# EAGLE library part 691331510010 (library Wurth_Connectors_WR-TBL Pluggable Connector)
WR-TBL Serie 3315 - 5.08 mm Double Level Horizontal Male PCB Header w. Flanges KIND PROPERTIES Pitch 5.08 mm MATERIAL PROPERTIES Insulator Material PA66 Insulator Flammability Rating UL94 V-0 Insulator Color Green Contact Material Brass Contact Plating Tin GENERAL INFORMATION Operating Temperature -40 up to +105 °C ELECTRICAL PROPERTIES IR UL 20 A Working Voltage [UL] 300 V (AC) Withstanding Voltage [cULus] 1600 V (AC) Contact Resistance [cULus] 20 mΩ CERTIFICATION cULus Approval E315414 <https://www.we-online.com/catalog/media/o33284v209%20Family_WR-TBL_6913315100xx.jpg> Details see: https://www.we-online.com/catalog/en/TBL_5_08_3315_DOUBLE_LEVEL_HORIZONTAL_MALE_PCB_HEADER_W_FLANGES_6913315100XX/ Updated by Ella Wu 2019-12-26 2022(C) Wurth Elektronik
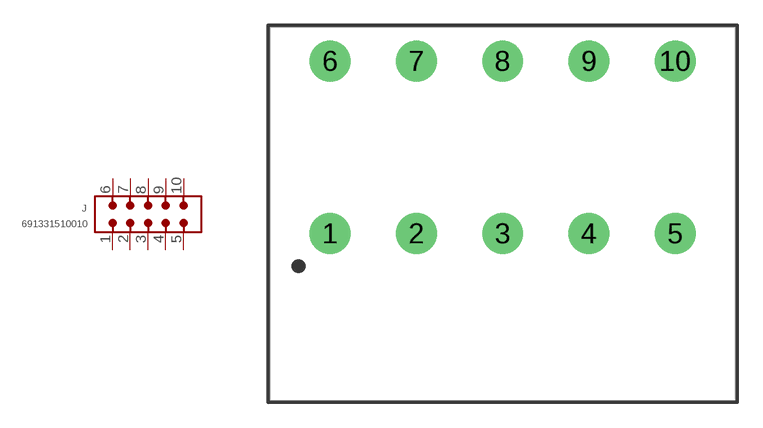
[diagram p339: symbol with the pads of 691331510010; footprint 691331510010]

Designator prefix J

## 691331510010 (DATASHEET-URL: https://www.we-online.com/redexpert/spec/691331510010?ae; IR-UL: 20A; MOUNT: THT; PART-NUMBER: 691331510010; PINS: 10; PITCH: 5.08mm; TYPE: Double Level Horizontal; VALUE: 691331510010; WORKING-VOLTAGE-UL: 300V (AC))  [691331510010]
1  1  pas
2  2  pas
3  3  pas
4  4  pas
5  5  pas
6  6  pas
7  7  pas
8  8  pas
9  9  pas
10  10  pas

## Footprint 691331510010 (pad centres in mm)
WR-TBL Serie 3315 - 5.08 mm Double Level Horizontal Male PCB Header w. Flanges Max Height = 28.8mm , Pitch 5.08mm , 10pins
drill 1.6: 1 -10.16,-5.08; 2 -5.08,-5.08; 3 0,-5.08; 4 5.08,-5.08; 5 10.16,-5.08; 6 -10.16,5.08; 7 -5.08,5.08; 8 0,5.08; 9 5.08,5.08; 10 10.16,5.08